# Altium footprint library MY-I.MX6-PCB_Library.PcbLib: 53 footprints (part 2 of 4)
Each footprint in its own frame and in the unit in brackets; x right, y up, seen from the top. Pads: shape width x height; smd on the part's side, far side on the other; paste and mask are expansions set on the pad; w line width, h text height; cw(c..) or ccw(c..) is an arc to the next point about the centre after c.
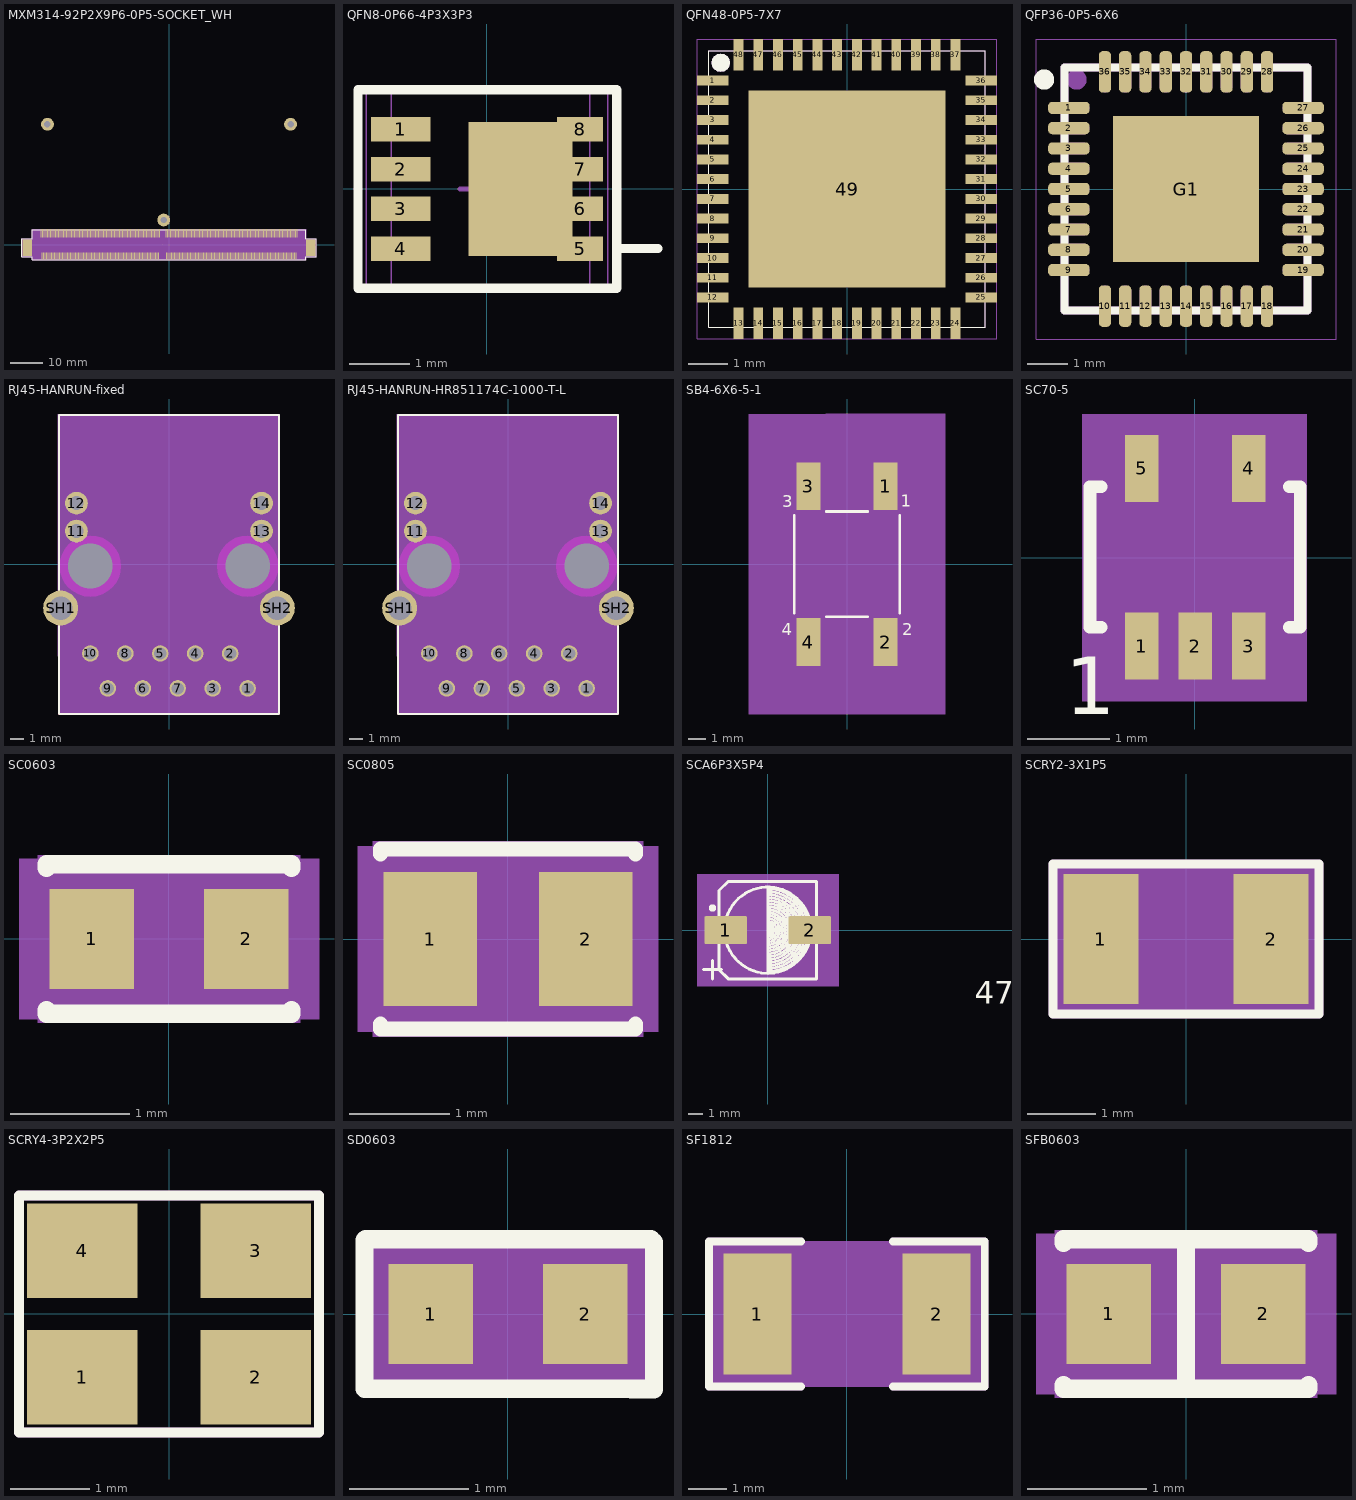
[diagram p1: the footprints below, top view; thin cyan lines are the x and y axes]

## MXM314-92P2X9P6-0P5-SOCKET_WH [mm] "MXM314-92P2X9P6-0P5-SOCKET_WH"
pads (319):
  rect 0.3x2.2 smd: P1(-39.75,-3.5) P2(-39.25,-3.5) P3(-38.75,-3.5) P4(-38.25,-3.5) P5(-37.75,-3.5) P6(-37.25,-3.5) P7(-36.75,-3.5) P8(-36.25,-3.5) P9(-35.75,-3.5) P10(-35.25,-3.5) P11(-34.75,-3.5) P12(-34.25,-3.5) P13(-33.75,-3.5) P14(-33.25,-3.5) P15(-32.75,-3.5) P16(-32.25,-3.5) P17(-31.75,-3.5) P18(-31.25,-3.5) P19(-30.75,-3.5) P20(-30.25,-3.5) P21(-29.75,-3.5) P22(-29.25,-3.5) P23(-28.75,-3.5) P24(-28.25,-3.5) P25(-27.75,-3.5) P26(-27.25,-3.5) P27(-26.75,-3.5) P28(-26.25,-3.5) P29(-25.75,-3.5) P30(-25.25,-3.5) P31(-24.75,-3.5) P32(-24.25,-3.5) P33(-23.75,-3.5) P34(-23.25,-3.5) P35(-22.75,-3.5) P36(-22.25,-3.5) P37(-21.75,-3.5) P38(-21.25,-3.5) P39(-20.75,-3.5) P40(-20.25,-3.5) P41(-19.75,-3.5) P42(-19.25,-3.5) P43(-18.75,-3.5) P44(-18.25,-3.5) P45(-17.75,-3.5) P46(-17.25,-3.5) P47(-16.75,-3.5) P48(-16.25,-3.5) P49(-15.75,-3.5) P50(-15.25,-3.5) P51(-14.75,-3.5) P52(-14.25,-3.5) P53(-13.75,-3.5) P54(-13.25,-3.5) P55(-12.75,-3.5) P56(-12.25,-3.5) P57(-11.75,-3.5) P58(-11.25,-3.5) P59(-10.75,-3.5) P60(-10.25,-3.5) P61(-9.75,-3.5) P62(-9.25,-3.5) P63(-8.75,-3.5) P64(-8.25,-3.5) P65(-7.75,-3.5) P66(-7.25,-3.5) P67(-6.75,-3.5) P68(-6.25,-3.5) P69(-5.75,-3.5) P70(-5.25,-3.5) P71(-4.75,-3.5) P72(-4.25,-3.5) P73(-3.75,-3.5) P74(-3.25,-3.5) P75(-0.75,-3.5) P76(-0.25,-3.5) P77(0.25,-3.5) P78(0.75,-3.5) P79(1.25,-3.5) P80(1.75,-3.5) P81(2.25,-3.5) P82(2.75,-3.5) P83(3.25,-3.5) P84(3.75,-3.5) P85(4.25,-3.5) P86(4.75,-3.5) P87(5.25,-3.5) P88(5.75,-3.5) P89(6.25,-3.5) P90(6.75,-3.5) P91(7.25,-3.5) P92(7.75,-3.5) P93(8.25,-3.5) P94(8.75,-3.5) P95(9.25,-3.5) P96(9.75,-3.5) P97(10.25,-3.5) P98(10.75,-3.5) P99(11.25,-3.5) P100(11.75,-3.5) P101(12.25,-3.5) P102(12.75,-3.5) P103(13.25,-3.5) P104(13.75,-3.5) P105(14.25,-3.5) P106(14.75,-3.5) P107(15.25,-3.5) P108(15.75,-3.5) P109(16.25,-3.5) P110(16.75,-3.5) P111(17.25,-3.5) P112(17.75,-3.5) P113(18.25,-3.5) P114(18.75,-3.5) P115(19.25,-3.5) P116(19.75,-3.5) P117(20.25,-3.5) P118(20.75,-3.5) P119(21.25,-3.5) P120(21.75,-3.5) P121(22.25,-3.5) P122(22.75,-3.5) P123(23.25,-3.5) P124(23.75,-3.5) P125(24.25,-3.5) P126(24.75,-3.5) P127(25.25,-3.5) P128(25.75,-3.5) P129(26.25,-3.5) P130(26.75,-3.5) P131(27.25,-3.5) P132(27.75,-3.5) P133(28.25,-3.5) P134(28.75,-3.5) P135(29.25,-3.5) P136(29.75,-3.5) P137(30.25,-3.5) P138(30.75,-3.5) P139(31.25,-3.5) P140(31.75,-3.5) P141(32.25,-3.5) P142(32.75,-3.5) P143(33.25,-3.5) P144(33.75,-3.5) P145(34.25,-3.5) P146(34.75,-3.5) P147(35.25,-3.5) P148(35.75,-3.5) P149(36.25,-3.5) P150(36.75,-3.5) P151(37.25,-3.5) P152(37.75,-3.5) P153(38.25,-3.5) P154(38.75,-3.5) P155(39.25,-3.5) P156(39.75,-3.5)
  rect 0.3x2.7 smd: S1(-40,3.65) S2(-39.5,3.65) S3(-39,3.65) S4(-38.5,3.65) S5(-38,3.65) S6(-37.5,3.65) S7(-37,3.65) S8(-36.5,3.65) S9(-36,3.65) S10(-35.5,3.65) S11(-35,3.65) S12(-34.5,3.65) S13(-34,3.65) S14(-33.5,3.65) S15(-33,3.65) S16(-32.5,3.65) S17(-32,3.65) S18(-31.5,3.65) S19(-31,3.65) S20(-30.5,3.65) S21(-30,3.65) S22(-29.5,3.65) S23(-29,3.65) S24(-28.5,3.65) S25(-28,3.65) S26(-27.5,3.65) S27(-27,3.65) S28(-26.5,3.65) S29(-26,3.65) S30(-25.5,3.65) S31(-25,3.65) S32(-24.5,3.65) S33(-24,3.65) S34(-23.5,3.65) S35(-23,3.65) S36(-22.5,3.65) S37(-22,3.65) S38(-21.5,3.65) S39(-21,3.65) S40(-20.5,3.65) S41(-20,3.65) S42(-19.5,3.65) S43(-19,3.65) S44(-18.5,3.65) S45(-18,3.65) S46(-17.5,3.65) S47(-17,3.65) S48(-16.5,3.65) S49(-16,3.65) S50(-15.5,3.65) S51(-15,3.65) S52(-14.5,3.65) S53(-14,3.65) S54(-13.5,3.65) S55(-13,3.65) S56(-12.5,3.65) S57(-12,3.65) S58(-11.5,3.65) S59(-11,3.65) S60(-10.5,3.65) S61(-10,3.65) S62(-9.5,3.65) S63(-9,3.65) S64(-8.5,3.65) S65(-8,3.65) S66(-7.5,3.65) S67(-7,3.65) S68(-6.5,3.65) S69(-6,3.65) S70(-5.5,3.65) S71(-5,3.65) S72(-4.5,3.65) S73(-4,3.65) S74(-3.5,3.65) S75(-3,3.65) S76(-1,3.65) S77(-0.5,3.65) S78(0,3.65) S79(0.5,3.65) S80(1,3.65) S81(1.5,3.65) S82(2,3.65) S83(2.5,3.65) S84(3,3.65) S85(3.5,3.65) S86(4,3.65) S87(4.5,3.65) S88(5,3.65) S89(5.5,3.65) S90(6,3.65) S91(6.5,3.65) S92(7,3.65) S93(7.5,3.65) S94(8,3.65) S95(8.5,3.65) S96(9,3.65) S97(9.5,3.65) S98(10,3.65) S99(10.5,3.65) S100(11,3.65) S101(11.5,3.65) S102(12,3.65) S103(12.5,3.65) S104(13,3.65) S105(13.5,3.65) S106(14,3.65) S107(14.5,3.65) S108(15,3.65) S109(15.5,3.65) S110(16,3.65) S111(16.5,3.65) S112(17,3.65) S113(17.5,3.65) S114(18,3.65) S115(18.5,3.65) S116(19,3.65) S117(19.5,3.65) S118(20,3.65) S119(20.5,3.65) S120(21,3.65) S121(21.5,3.65) S122(22,3.65) S123(22.5,3.65) S124(23,3.65) S125(23.5,3.65) S126(24,3.65) S127(24.5,3.65) S128(25,3.65) S129(25.5,3.65) S130(26,3.65) S131(26.5,3.65) S132(27,3.65) S133(27.5,3.65) S134(28,3.65) S135(28.5,3.65) S136(29,3.65) S137(29.5,3.65) S138(30,3.65) S139(30.5,3.65) S140(31,3.65) S141(31.5,3.65) S142(32,3.65) S143(32.5,3.65) S144(33,3.65) S145(33.5,3.65) S146(34,3.65) S147(34.5,3.65) S148(35,3.65) S149(35.5,3.65) S150(36,3.65) S151(36.5,3.65) S152(37,3.65) S153(37.5,3.65) S154(38,3.65) S155(38.5,3.65) S156(39,3.65) S157(39.5,3.65) S158(40,3.65)
  rect 3x5.15 smd: ""(-44.31,-0.98) ""(44.31,-0.98)
  round 4 hole 2: ""(-38,37.653) ""(-1.662,7.724) ""(38,37.653)
Top Layer:
  lines w0.025: -2,-0.05 -2,0.05
Top Overlay:
  lines w0.15: -42.8,4.6 -42.8,4.7 ; -42.8,4.7 42.8,4.7 42.8,1.8 46,1.8 46,-3.7 42.8,-3.7 42.8,-4.7 -42.7,-4.7 -42.7,-3.8 -46,-3.8 -46,1.8 -42.8,1.8 -42.8,4.7
  text ".Designator" at -3.01,-6.855 h0.7
Top 3D Body:
  region: 42.9,4.5 42.9,4.8 -42.9,4.8 -42.9,1.9 -46,1.9 -46.1,1.9 -46.1,-3.9 -46,-3.9 -42.8,-3.9 -42.8,-4.8 42.9,-4.8 42.9,-3.8 46.1,-3.8 46.1,1.9 42.9,1.9 42.9,4.3
Top Component Center:
  lines w0.076: -2.55,0 -1.45,0 ; -2,-0.5 -2,0.5
Mechanical 16:
  text "P4" at -39.266,-3.5 h0.64
  text "P5" at -38.766,-3.5 h0.64
  text "P128" at 23.718,-3.5 h0.64
  text "P121" at 20.218,-3.5 h0.64
  text "P122" at 20.718,-3.5 h0.64
  text "P124" at 21.718,-3.5 h0.64
  text "P127" at 23.218,-3.5 h0.64
  text "P125" at 22.218,-3.5 h0.64
  text "P132" at 25.718,-3.5 h0.64
  text "P135" at 27.218,-3.5 h0.64
  text "P136" at 27.718,-3.5 h0.64
  text "P139" at 29.218,-3.5 h0.64
  text "P133" at 26.218,-3.5 h0.64
  text "P138" at 28.718,-3.5 h0.64
  text "P130" at 24.718,-3.5 h0.64
  text "P72" at -5.774,-3.5 h0.64
  text "P105" at 12.218,-3.5 h0.64
  text "S113" at 14.198,3.65 h0.64
  text "S103" at 9.198,3.65 h0.64
  text "P107" at 13.218,-3.5 h0.64
  text "P69" at -7.274,-3.5 h0.64
  text "P73" at -5.274,-3.5 h0.64
  text "S74" at -6.294,3.65 h0.64
  text "S98" at 7.206,3.65 h0.64
  text "S58" at -14.294,3.65 h0.64
  text "S51" at -17.794,3.65 h0.64
  text "S59" at -13.794,3.65 h0.64
  text "S67" at -9.794,3.65 h0.64
  text "S57" at -14.794,3.65 h0.64
  text "S106" at 10.698,3.65 h0.64
  text "S107" at 11.198,3.65 h0.64
  text "P147" at 33.218,-3.5 h0.64
  text "S158" at 36.698,3.65 h0.64
  text "S157" at 36.198,3.65 h0.64
  text "S156" at 35.698,3.65 h0.64
  text "S155" at 35.198,3.65 h0.64
  text "S154" at 34.698,3.65 h0.64
  text "S153" at 34.198,3.65 h0.64
  text "P150" at 34.718,-3.5 h0.64
  text "P149" at 34.218,-3.5 h0.64
  text "P82" at 1.226,-3.5 h0.64
  text "P80" at 0.226,-3.5 h0.64
  text "S64" at -11.294,3.65 h0.64
  text "S61" at -12.794,3.65 h0.64
  text "S95" at 5.706,3.65 h0.64
  text "S126" at 20.698,3.65 h0.64
  text "P144" at 31.718,-3.5 h0.64
  text "P88" at 4.226,-3.5 h0.64
  text "S87" at 1.706,3.65 h0.64
  text "S55" at -15.794,3.65 h0.64
  text "S101" at 8.198,3.65 h0.64
  text "P38" at -22.774,-3.5 h0.64
  text "S132" at 23.698,3.65 h0.64
  text "P81" at 0.726,-3.5 h0.64
  text "P145" at 32.218,-3.5 h0.64
  text "P74" at -4.774,-3.5 h0.64
  text "S123" at 19.198,3.65 h0.64
  text "S75" at -5.794,3.65 h0.64
  text "S70" at -8.294,3.65 h0.64
  text "P87" at 3.726,-3.5 h0.64
  text "P78" at -0.774,-3.5 h0.64
  text "S124" at 19.698,3.65 h0.64
  text "P83" at 1.726,-3.5 h0.64
  text "S63" at -11.794,3.65 h0.64
  text "S53" at -16.794,3.65 h0.64
  text "S99" at 7.706,3.65 h0.64
  text "S72" at -7.294,3.65 h0.64
  text "S68" at -9.294,3.65 h0.64
  text "S60" at -13.294,3.65 h0.64
  text "S54" at -16.294,3.65 h0.64
  text "P85" at 2.726,-3.5 h0.64
  text "P76" at -1.774,-3.5 h0.64
  text "P86" at 3.226,-3.5 h0.64
  text "P91" at 5.726,-3.5 h0.64
  text "S96" at 6.206,3.65 h0.64
  text "S8" at -38.786,3.65 h0.64
  text "S90" at 3.206,3.65 h0.64
  text "S128" at 21.698,3.65 h0.64
  text "S102" at 8.698,3.65 h0.64
  text "S62" at -12.294,3.65 h0.64
  text "S50" at -18.294,3.65 h0.64
  text "S97" at 6.706,3.65 h0.64
  text "S104" at 9.698,3.65 h0.64
  text "S94" at 5.206,3.65 h0.64
  text "S88" at 2.206,3.65 h0.64
  text "P79" at -0.274,-3.5 h0.64
  text "S49" at -18.794,3.65 h0.64
  text "S119" at 17.198,3.65 h0.64
  text "P92" at 6.226,-3.5 h0.64
  text "S108" at 11.698,3.65 h0.64
  text "P89" at 4.726,-3.5 h0.64
  text "S92" at 4.206,3.65 h0.64
  text "S131" at 23.198,3.65 h0.64
  text "S130" at 22.698,3.65 h0.64
  text "S93" at 4.706,3.65 h0.64
  text "S129" at 22.198,3.65 h0.64
  text "P146" at 32.718,-3.5 h0.64
  text "P77" at -1.274,-3.5 h0.64
  text "S73" at -6.794,3.65 h0.64
  text "S100" at 7.698,3.65 h0.64
  text "S66" at -10.294,3.65 h0.64
  text "S32" at -27.294,3.65 h0.64
  text "S69" at -8.794,3.65 h0.64
  text "S71" at -7.794,3.65 h0.64
  text "P90" at 5.226,-3.5 h0.64
  text "P143" at 31.218,-3.5 h0.64
  text "S105" at 10.198,3.65 h0.64
  text "S125" at 20.198,3.65 h0.64
  text "S56" at -15.294,3.65 h0.64
  text "S89" at 2.706,3.65 h0.64
  text "S109" at 12.198,3.65 h0.64
  text "P70" at -6.774,-3.5 h0.64
  text "S86" at 1.206,3.65 h0.64
  text "S65" at -10.794,3.65 h0.64
  text "P84" at 2.226,-3.5 h0.64
  text "S52" at -17.294,3.65 h0.64
  text "P104" at 11.718,-3.5 h0.64
  text "P63" at -10.274,-3.5 h0.64
  text "S17" at -34.794,3.65 h0.64
  text "P6" at -38.266,-3.5 h0.64
  text "P10" at -36.774,-3.5 h0.64
  text "P71" at -6.274,-3.5 h0.64
  text "P62" at -10.774,-3.5 h0.64
  text "S29" at -28.794,3.65 h0.64
  text "P65" at -9.274,-3.5 h0.64
  text "P61" at -11.274,-3.5 h0.64
  text "S91" at 3.706,3.65 h0.64
  text "P148" at 33.718,-3.5 h0.64
  text "P64" at -9.774,-3.5 h0.64
  text "S30" at -28.294,3.65 h0.64
  text "P8" at -37.266,-3.5 h0.64
  text "S77" at -3.294,3.65 h0.64
  text "S78" at -2.794,3.65 h0.64
  text "P66" at -8.774,-3.5 h0.64
  text "P67" at -8.274,-3.5 h0.64
  text "S26" at -30.294,3.65 h0.64
  text "P12" at -35.774,-3.5 h0.64
  text "S152" at 33.698,3.65 h0.64
  text "S149" at 32.198,3.65 h0.64
  text "S151" at 33.198,3.65 h0.64
  text "S150" at 32.698,3.65 h0.64
  text "P60" at -11.774,-3.5 h0.64
  text "P9" at -36.766,-3.5 h0.64
  text "S18" at -34.294,3.65 h0.64
  text "P11" at -36.274,-3.5 h0.64
  text "S27" at -29.794,3.65 h0.64
  text "P7" at -37.766,-3.5 h0.64
  text "P25" at -29.274,-3.5 h0.64
  text "P24" at -29.774,-3.5 h0.64
  text "S46" at -20.294,3.65 h0.64
  text "S47" at -19.794,3.65 h0.64
  text "S14" at -36.294,3.65 h0.64
  text "P35" at -24.274,-3.5 h0.64
  text "S10" at -38.294,3.65 h0.64
  text "S24" at -31.294,3.65 h0.64
  text "P49" at -17.274,-3.5 h0.64
  text "P28" at -27.774,-3.5 h0.64
  text "S112" at 13.698,3.65 h0.64
  text "P27" at -28.274,-3.5 h0.64
  text "S85" at 0.706,3.65 h0.64
  text "P19" at -32.274,-3.5 h0.64
  text "P18" at -32.774,-3.5 h0.64
  text "S144" at 29.698,3.65 h0.64
  text "P16" at -33.774,-3.5 h0.64
  text "P106" at 12.718,-3.5 h0.64
  text "P15" at -34.274,-3.5 h0.64
  text "P103" at 11.218,-3.5 h0.64
  text "P22" at -30.774,-3.5 h0.64
  text "P21" at -31.274,-3.5 h0.64
  text "S140" at 27.698,3.65 h0.64
  text "P43" at -20.274,-3.5 h0.64
  text "S110" at 12.698,3.65 h0.64
  text "S138" at 26.698,3.65 h0.64
  text "S37" at -24.794,3.65 h0.64
  text "S122" at 18.698,3.65 h0.64
  text "S6" at -39.786,3.65 h0.64
  text "S41" at -22.794,3.65 h0.64
  text "S23" at -31.794,3.65 h0.64
  text "S135" at 25.198,3.65 h0.64
  text "S7" at -39.286,3.65 h0.64
  text "S44" at -21.294,3.65 h0.64
  text "S84" at 0.206,3.65 h0.64
  text "S34" at -26.294,3.65 h0.64
  text "S141" at 28.198,3.65 h0.64
  text "P46" at -18.774,-3.5 h0.64
  text "P113" at 16.218,-3.5 h0.64
  text "S121" at 18.198,3.65 h0.64
  text "P54" at -14.774,-3.5 h0.64
  text "P58" at -12.774,-3.5 h0.64
  text "S21" at -32.794,3.65 h0.64
  text "P110" at 14.718,-3.5 h0.64
  text "P37" at -23.274,-3.5 h0.64
  text "S20" at -33.294,3.65 h0.64
  text "S82" at -0.794,3.65 h0.64
  text "P100" at 9.718,-3.5 h0.64
  text "P47" at -18.274,-3.5 h0.64
  text "P32" at -25.774,-3.5 h0.64
  text "P141" at 30.218,-3.5 h0.64
  text "P115" at 17.218,-3.5 h0.64
  text "S80" at -1.794,3.65 h0.64
  text "S120" at 17.698,3.65 h0.64
  text "S111" at 13.198,3.65 h0.64
  text "S147" at 31.198,3.65 h0.64
  text "S134" at 24.698,3.65 h0.64
  text "S117" at 16.198,3.65 h0.64
  text "P101" at 10.218,-3.5 h0.64
  text "P39" at -22.274,-3.5 h0.64
  text "P97" at 8.726,-3.5 h0.64
  text "P41" at -21.274,-3.5 h0.64
  text "P45" at -19.274,-3.5 h0.64
  text "S9" at -38.286,3.65 h0.64
  text "S40" at -23.294,3.65 h0.64
  text "P94" at 7.226,-3.5 h0.64
  text "P53" at -15.274,-3.5 h0.64
  text "S137" at 26.198,3.65 h0.64
  text "S11" at -37.794,3.65 h0.64
  text "S35" at -25.794,3.65 h0.64
  text "P34" at -24.774,-3.5 h0.64
  text "P112" at 15.718,-3.5 h0.64
  text "P119" at 19.218,-3.5 h0.64
  text "P50" at -16.774,-3.5 h0.64
  text "P33" at -25.274,-3.5 h0.64
  text "S146" at 30.698,3.65 h0.64
  text "P42" at -20.774,-3.5 h0.64
  text "S4" at -40.786,3.65 h0.64
  text "S38" at -24.294,3.65 h0.64
  text "S118" at 16.698,3.65 h0.64
  text "S83" at -0.294,3.65 h0.64
  text "P95" at 7.726,-3.5 h0.64
  text "S143" at 29.198,3.65 h0.64
  text "S116" at 15.698,3.65 h0.64
  text "P55" at -14.274,-3.5 h0.64
  text "S114" at 14.698,3.65 h0.64
  text "S12" at -37.294,3.65 h0.64
  text "P116" at 17.718,-3.5 h0.64
  text "S43" at -21.794,3.65 h0.64
  text "P40" at -21.774,-3.5 h0.64
  text "P56" at -13.774,-3.5 h0.64
  text "S13" at -36.794,3.65 h0.64
  text "P31" at -26.274,-3.5 h0.64
  text "P142" at 30.718,-3.5 h0.64
  text "P109" at 14.218,-3.5 h0.64
  text "S81" at -1.294,3.65 h0.64
  text "S3" at -41.286,3.65 h0.64
  text "P118" at 18.718,-3.5 h0.64
  text "P30" at -26.774,-3.5 h0.64
  text "P98" at 9.226,-3.5 h0.64
  text "P51" at -16.274,-3.5 h0.64
  text "P52" at -15.774,-3.5 h0.64
  text "P48" at -17.774,-3.5 h0.64
  text "S5" at -40.286,3.65 h0.64
  text "P44" at -19.774,-3.5 h0.64
  text "P36" at -23.774,-3.5 h0.64
  text "P57" at -13.274,-3.5 h0.64
  text "P102" at 10.718,-3.5 h0.64
  text "P111" at 15.218,-3.5 h0.64
  text "P129" at 24.218,-3.5 h0.64
  text "P75" at -2.274,-3.5 h0.64
  text "P1" at -40.766,-3.5 h0.64
  text "P2" at -40.266,-3.5 h0.64
  text "P14" at -34.774,-3.5 h0.64
  text "P17" at -33.274,-3.5 h0.64
  text "P20" at -31.774,-3.5 h0.64
  text "P23" at -30.274,-3.5 h0.64
  text "P26" at -28.774,-3.5 h0.64
  text "P29" at -27.274,-3.5 h0.64
  text "P93" at 6.726,-3.5 h0.64
  text "P96" at 8.226,-3.5 h0.64
  text "P99" at 9.726,-3.5 h0.64
  text "P108" at 13.718,-3.5 h0.64
  text "P114" at 16.718,-3.5 h0.64
  text "P117" at 18.218,-3.5 h0.64
  text "P120" at 19.718,-3.5 h0.64
  text "P126" at 22.718,-3.5 h0.64
  text "P123" at 21.218,-3.5 h0.64
  text "P131" at 25.218,-3.5 h0.64
  text "P134" at 26.718,-3.5 h0.64
  text "P137" at 28.218,-3.5 h0.64
  text "P140" at 29.718,-3.5 h0.64
  text "P3" at -39.766,-3.5 h0.64
  text "S2" at -41.786,3.65 h0.64
  text "S16" at -35.294,3.65 h0.64
  text "P13" at -35.274,-3.5 h0.64
  text "S19" at -33.794,3.65 h0.64
  text "S22" at -32.294,3.65 h0.64
  text "S28" at -29.294,3.65 h0.64
  text "S31" at -27.794,3.65 h0.64
  text "S33" at -26.794,3.65 h0.64
  text "S25" at -30.794,3.65 h0.64
  text "S36" at -25.294,3.65 h0.64
  text "S39" at -23.794,3.65 h0.64
  text "S42" at -22.294,3.65 h0.64
  text "S45" at -20.794,3.65 h0.64
  text "S48" at -19.294,3.65 h0.64
  text "S76" at -3.794,3.65 h0.64
  text "S79" at -2.294,3.65 h0.64
  text "S115" at 15.198,3.65 h0.64
  text "S133" at 24.198,3.65 h0.64
  text "S136" at 25.698,3.65 h0.64
  text "S139" at 27.198,3.65 h0.64
  text "S142" at 28.698,3.65 h0.64
  text "S145" at 30.198,3.65 h0.64
  text "S148" at 31.698,3.65 h0.64
  text "S1" at -42.286,3.65 h0.64
  text "S15" at -35.794,3.65 h0.64
  text "S127" at 21.198,3.65 h0.64
  text "P68" at -7.774,-3.5 h0.64
  text "P59" at -12.274,-3.5 h0.64
  text "P156" at 37.718,-3.5 h0.64
  text "P155" at 37.218,-3.5 h0.64
  text "P154" at 36.718,-3.5 h0.64
  text "P153" at 36.218,-3.5 h0.64
  text "P152" at 35.718,-3.5 h0.64
  text "P151" at 35.218,-3.5 h0.64
Top Assembly:
  lines w0.025: -46,-3.8 -42.7,-3.8 -42.7,-4.7 42.8,-4.7 42.8,-3.7 46,-3.7 46,1.8 42.8,1.8 42.8,4.7 -42.8,4.7 -42.8,1.8 -46,1.8 -46,-3.8
  text "MXM314" at -2.762,-0.212 h0.64
Mechanical 20:
  dashed: 42.9,3.5 42.9,4.8 -42.9,4.8 -42.9,1.9 -46.1,1.9 -46.1,1.1 -46.1,-3.9 -42.8,-3.9 -42.8,-4.8 42.9,-4.8 42.9,-3.8 46.1,-3.8 46.1,1.9 42.9,1.9 42.9,3.3
3D body: height 3.81, standoff 0, extent -46.1,-4.8 46.1,4.8

## QFN8-0P66-4P3X3P3 [mil] "QFN8-0P66-4P3X3P3"
pads (9):
  rect 39x16 smd: 1(-56.5,39) 2(-56.5,13) 3(-56.5,-13) 4(-56.5,-39)
  rect 30x16 smd: 5(61,-39) 6(61,-13) 7(61,13) 8(61,39)
  rect 68x88 smd: ""(22,0)
Top Overlay:
  lines w6: 87,-39 112,-39 ; -84.43,-65.01 -84.43,65.01 84.99,65.01 84.99,-65.01 -84.43,-65.01
  text ".Designator" at 112.7,22.15 h27.56
Top Courtyard:
  lines w1: -79,-65 -79,65 79,65 79,-65 -79,-65
Top 3D Body:
  lines w1: -79,-65 -79,65 79,65 79,-65 -79,-65
Top Component Center:
  lines w3: -17.75,0 22.25,0 ; 2.25,-20 2.25,20
Mechanical 16:
  text "4" at -66.5,-39 h25
  text "3" at -66.5,-13 h25
  text "2" at -66.5,13 h25
  text "1" at -66.5,39 h25
  text "8" at 51,39 h25
  text "7" at 51,13 h25
  text "6" at 51,-13 h25
  text "5" at 51,-39 h25
Top Assembly:
  lines w1: -62.75,-65 67.25,-65 67.25,65 -62.75,65 -62.75,-65
  text "Si7129DN-T1-GE3" at -147.75,-8.33 h25

## QFN48-0P5-7X7 [mm] "QFN48-0P5-7X7"
pads (49):
  rect 0.8x0.25 smd: 1(-3.4,2.75) 2(-3.4,2.25) 3(-3.4,1.75) 4(-3.4,1.25) 5(-3.4,0.75) 6(-3.4,0.25) 7(-3.4,-0.25) 8(-3.4,-0.75) 9(-3.4,-1.25) 10(-3.4,-1.75) 11(-3.4,-2.25) 12(-3.4,-2.75) 25(3.4,-2.75) 26(3.4,-2.25) 27(3.4,-1.75) 28(3.4,-1.25) 29(3.4,-0.75) 30(3.4,-0.25) 31(3.4,0.25) 32(3.4,0.75) 33(3.4,1.25) 34(3.4,1.75) 35(3.4,2.25) 36(3.4,2.75)
  rect 0.25x0.8 smd: 13(-2.75,-3.4) 14(-2.25,-3.4) 15(-1.75,-3.4) 16(-1.25,-3.4) 17(-0.75,-3.4) 18(-0.25,-3.4) 19(0.25,-3.4) 20(0.75,-3.4) 21(1.25,-3.4) 22(1.75,-3.4) 23(2.25,-3.4) 24(2.75,-3.4) 37(2.75,3.4) 38(2.25,3.4) 39(1.75,3.4) 40(1.25,3.4) 41(0.75,3.4) 42(0.25,3.4) 43(-0.25,3.4) 44(-0.75,3.4) 45(-1.25,3.4) 46(-1.75,3.4) 47(-2.25,3.4) 48(-2.75,3.4)
  rect 5x5 smd: 49(0,0)
Top Overlay:
  dashed: -2.972,3.2 -2.989,3.287 -3.039,3.361 -3.113,3.411 -3.2,3.428 -3.287,3.411 -3.312,3.394 -3.361,3.361 -3.411,3.287 -3.428,3.2 -3.411,3.113 -3.361,3.039 -3.312,3.006 -3.287,2.989 -3.2,2.972 -3.113,2.989 -3.039,3.039 -2.989,3.113
  lines w0.025: -3.5,-3.5 3.5,-3.5 3.5,3.5 -3.5,3.5 -3.5,-3.5
  text ".Designator" at -6.619,2.246 h0.7
Top Paste:
  dashed: -1.24,1.25 -1.24,2.16 -2.15,2.16 -2.15,1.25
  dashed: -1.24,0.1 -1.24,1.01 -2.15,1.01 -2.15,0.1
  dashed: -1.24,-1.03 -1.24,-0.12 -2.15,-0.12 -2.15,-1.03
  dashed: -1.24,-2.18 -1.24,-1.27 -2.15,-1.27 -2.15,-2.18
  dashed: -0.11,-2.18 -0.11,-1.27 -1.02,-1.27 -1.02,-2.18
  dashed: -0.11,-1.03 -0.11,-0.12 -1.02,-0.12 -1.02,-1.03
  dashed: -0.11,0.1 -0.11,1.01 -1.02,1.01 -1.02,0.1
  dashed: -0.11,1.25 -0.11,2.16 -1.02,2.16 -1.02,1.25
  dashed: 2.151,-2.182 2.151,-1.271 1.241,-1.271 1.241,-2.182
  dashed: 1.02,-2.181 1.02,-1.271 0.111,-1.271 0.111,-2.181
  dashed: 2.151,-1.031 2.151,-0.121 1.241,-0.121 1.241,-1.031
  dashed: 1.02,-1.031 1.02,-0.121 0.111,-0.121 0.111,-1.031
  dashed: 2.151,1.248 2.151,2.158 1.241,2.158 1.241,1.248
  dashed: 2.151,0.099 2.151,1.008 1.241,1.008 1.241,0.099
  dashed: 1.02,0.099 1.02,1.009 0.111,1.009 0.111,0.099
  dashed: 1.02,1.249 1.02,2.159 0.111,2.159 0.111,1.249
Top Solder:
  dashed: -1.23,-1.04 -1.23,-0.11 -2.16,-0.11 -2.16,-1.04
  dashed: -1.23,-2.19 -1.23,-1.26 -2.16,-1.26 -2.16,-2.19
  dashed: -1.23,0.09 -1.23,1.02 -2.16,1.02 -2.16,0.09
  dashed: -1.23,1.24 -1.23,2.17 -2.16,2.17 -2.16,1.24
  dashed: -0.1,-2.19 -0.1,-1.26 -1.03,-1.26 -1.03,-2.19
  dashed: -0.1,-1.04 -0.1,-0.11 -1.03,-0.11 -1.03,-1.04
  dashed: -0.1,1.24 -0.1,2.17 -1.03,2.17 -1.03,1.24
  dashed: -0.1,0.09 -0.1,1.02 -1.03,1.02 -1.03,0.09
  dashed: 1.03,-2.19 1.03,-1.26 0.1,-1.26 0.1,-2.19
  dashed: 1.03,-1.04 1.03,-0.11 0.1,-0.11 0.1,-1.04
  dashed: 1.03,1.24 1.03,2.17 0.1,2.17 0.1,1.24
  dashed: 1.03,0.09 1.03,1.02 0.1,1.02 0.1,0.09
  dashed: 2.16,-2.19 2.16,-1.26 1.23,-1.26 1.23,-2.19
  dashed: 2.16,-1.04 2.16,-0.11 1.23,-0.11 1.23,-1.04
  dashed: 2.16,1.24 2.16,2.17 1.23,2.17 1.23,1.24
  dashed: 2.16,0.09 2.16,1.02 1.23,1.02 1.23,0.09
Top 3D Body:
  lines w0.025: -3.802,-3.802 3.802,-3.802 3.802,3.802 -3.802,3.802 -3.802,-3.802
Mechanical 16:
  text "13" at -3.157,-3.4 h0.51
  text "47" at -2.656,3.4 h0.51
  text "48" at -3.157,3.4 h0.51
  text "46" at -2.157,3.4 h0.51
  text "45" at -1.656,3.4 h0.51
  text "39" at 1.344,3.4 h0.51
  text "23" at 1.843,-3.4 h0.51
  text "18" at -0.656,-3.4 h0.51
  text "26" at 2.994,-2.25 h0.51
  text "30" at 2.994,-0.25 h0.51
  text "14" at -2.656,-3.4 h0.51
  text "7" at -3.603,-0.25 h0.51
  text "10" at -3.806,-1.75 h0.51
  text "1" at -3.603,2.75 h0.51
  text "12" at -3.806,-2.75 h0.51
  text "4" at -3.603,1.25 h0.51
  text "9" at -3.603,-1.25 h0.51
  text "44" at -1.157,3.4 h0.51
  text "5" at -3.603,0.75 h0.51
  text "6" at -3.603,0.25 h0.51
  text "8" at -3.603,-0.75 h0.51
  text "17" at -1.157,-3.4 h0.51
  text "2" at -3.603,2.25 h0.51
  text "43" at -0.656,3.4 h0.51
  text "3" at -3.603,1.75 h0.51
  text "34" at 2.994,1.75 h0.51
  text "40" at 0.843,3.4 h0.51
  text "16" at -1.656,-3.4 h0.51
  text "11" at -3.806,-2.25 h0.51
  text "15" at -2.157,-3.4 h0.51
  text "20" at 0.344,-3.4 h0.51
  text "36" at 2.994,2.75 h0.51
  text "19" at -0.156,-3.4 h0.51
  text "21" at 0.843,-3.4 h0.51
  text "31" at 2.994,0.25 h0.51
  text "41" at 0.344,3.4 h0.51
  text "27" at 2.994,-1.75 h0.51
  text "25" at 2.994,-2.75 h0.51
  text "38" at 1.843,3.4 h0.51
  text "24" at 2.344,-3.4 h0.51
  text "28" at 2.994,-1.25 h0.51
  text "42" at -0.156,3.4 h0.51
  text "22" at 1.344,-3.4 h0.51
  text "32" at 2.994,0.75 h0.51
  text "37" at 2.344,3.4 h0.51
  text "35" at 2.994,2.25 h0.51
  text "33" at 2.994,1.25 h0.51
  text "29" at 2.994,-0.75 h0.51
  text "49" at -0.813,0 h0.51
  text "49" at -0.953,0 h0.51
  text "49" at 1.308,-0.001 h0.51
  text "49" at 0.178,-0.001 h0.51
Top Assembly:
  dashed: -2.972,3.2 -2.989,3.287 -3.039,3.361 -3.113,3.411 -3.2,3.428 -3.287,3.411 -3.312,3.394 -3.361,3.361 -3.411,3.287 -3.428,3.2 -3.411,3.113 -3.361,3.039 -3.312,3.006 -3.287,2.989 -3.2,2.972 -3.113,2.989 -3.039,3.039 -2.989,3.113
  lines w0.025: -3.5,-3.5 3.5,-3.5 3.5,3.5 -3.5,3.5 -3.5,-3.5

## QFP36-0P5-6X6 [mm] "QFP36-0P5-6X6"
pads (37):
  rrect67% 1.024x0.3 smd: 1(-2.888,2) 2(-2.888,1.5) 3(-2.888,1) 4(-2.888,0.5) 5(-2.888,0) 6(-2.888,-0.5) 7(-2.888,-1) 8(-2.888,-1.5) 9(-2.888,-2) 19(2.888,-2) 20(2.888,-1.5) 21(2.888,-1) 22(2.888,-0.5) 23(2.888,0) 24(2.888,0.5) 25(2.888,1) 26(2.888,1.5) 27(2.888,2)
  rrect67% 0.3x1.024 smd: 10(-2,-2.888) 11(-1.5,-2.888) 12(-1,-2.888) 13(-0.5,-2.888) 14(0,-2.888) 15(0.5,-2.888) 16(1,-2.888) 17(1.5,-2.888) 18(2,-2.888) 28(2,2.888) 29(1.5,2.888) 30(1,2.888) 31(0.5,2.888) 32(0,2.888) 33(-0.5,2.888) 34(-1,2.888) 35(-1.5,2.888) 36(-2,2.888)
  rect 3.6x3.6 smd: G1(0,0)
Top Overlay:
  circle w0.25: c-3.5,2.7 r0.125
  lines w0.2: -3,-3 3,-3 3,3 -3,3 -3,-3
  text ".Designator" at -6.162,1.365 h0.7
Top Paste:
  dashed: 1.26,0.75 1.221,0.945 1.11,1.11 0.945,1.221 0.75,1.26 0.555,1.221 0.499,1.184 0.39,1.11 0.279,0.945 0.24,0.75 0.279,0.555 0.39,0.39 0.499,0.316 0.555,0.279 0.75,0.24 0.945,0.279 1.11,0.39 1.221,0.555
  dashed: -0.24,0.75 -0.279,0.945 -0.39,1.11 -0.555,1.221 -0.75,1.26 -0.945,1.221 -1.001,1.184 -1.11,1.11 -1.221,0.945 -1.26,0.75 -1.221,0.555 -1.11,0.39 -1.001,0.316 -0.945,0.279 -0.75,0.24 -0.555,0.279 -0.39,0.39 -0.279,0.555
  dashed: 1.26,-0.75 1.221,-0.555 1.11,-0.39 0.945,-0.279 0.75,-0.24 0.555,-0.279 0.499,-0.316 0.39,-0.39 0.279,-0.555 0.24,-0.75 0.279,-0.945 0.39,-1.11 0.499,-1.184 0.555,-1.221 0.75,-1.26 0.945,-1.221 1.11,-1.11 1.221,-0.945
  dashed: -0.24,-0.75 -0.279,-0.555 -0.39,-0.39 -0.555,-0.279 -0.75,-0.24 -0.945,-0.279 -1.001,-0.316 -1.11,-0.39 -1.221,-0.555 -1.26,-0.75 -1.221,-0.945 -1.11,-1.11 -1.001,-1.184 -0.945,-1.221 -0.75,-1.26 -0.555,-1.221 -0.39,-1.11 -0.279,-0.945
Top Courtyard:
  lines w0.025: -3,-3 3,-3 3,3 -3,3 -3,-3
Top 3D Body:
  lines w0.025: -3.7,-3.7 3.7,-3.7 3.7,3.7 -3.7,3.7 -3.7,-3.7
Top Component Center:
  circle w0.025: c0,0 r0.5
  lines w0.025: -1,0 1,0 ; 0,-1 0,1
Mechanical 16:
  text "35" at -1.863,2.888 h0.45
  text "34" at -1.363,2.888 h0.45
  text "32" at -0.363,2.888 h0.45
  text "4" at -3.07,0.5 h0.45
  text "25" at 2.525,1 h0.45
  text "6" at -3.07,-0.5 h0.45
  text "7" at -3.07,-1 h0.45
  text "2" at -3.07,1.5 h0.45
  text "24" at 2.525,0.5 h0.45
  text "33" at -0.863,2.888 h0.45
  text "1" at -3.07,2 h0.45
  text "3" at -3.07,1 h0.45
  text "22" at 2.525,-0.5 h0.45
  text "27" at 2.525,2 h0.45
  text "30" at 0.637,2.888 h0.45
  text "14" at -0.363,-2.888 h0.45
  text "26" at 2.525,1.5 h0.45
  text "18" at 1.637,-2.888 h0.45
  text "19" at 2.525,-2 h0.45
  text "12" at -1.363,-2.888 h0.45
  text "28" at 1.637,2.888 h0.45
  text "16" at 0.637,-2.888 h0.45
  text "17" at 1.137,-2.888 h0.45
  text "13" at -0.863,-2.888 h0.45
  text "31" at 0.137,2.888 h0.45
  text "10" at -2.363,-2.888 h0.45
  text "15" at 0.137,-2.888 h0.45
  text "5" at -3.07,0 h0.45
  text "23" at 2.525,0 h0.45
  text "36" at -2.363,2.888 h0.45
  text "29" at 1.137,2.888 h0.45
  text "G1" at -1.016,0 h0.64
  text "11" at -1.863,-2.888 h0.45
  text "9" at -3.07,-2 h0.45
  text "8" at -3.07,-1.5 h0.45
  text "20" at 2.525,-1.5 h0.45
  text "21" at 2.525,-1 h0.45
Top Assembly:
  circle w0.25: c-2.7,2.7 r0.125
  lines w0.2: -3,-3 3,-3 3,3 -3,3 -3,-3
  lines w0.3: -2.95,-2 -2.525,-2 ; -2.95,-1.5 -2.525,-1.5 ; -2.95,-1 -2.525,-1 ; -2.95,-0.5 -2.525,-0.5 ; -2.95,0 -2.525,0 ; -2.95,0.5 -2.525,0.5 ; -2.95,1 -2.525,1 ; -2.95,1.5 -2.525,1.5 ; -2.95,2 -2.525,2 ; -2,-2.95 -2,-2.525 ; -2,2.525 -2,2.95 ; -1.5,-2.95 -1.5,-2.525 ; -1.5,2.525 -1.5,2.95 ; -1,-2.95 -1,-2.525 ; -1,2.525 -1,2.95 ; -0.5,-2.95 -0.5,-2.525 ; -0.5,2.525 -0.5,2.95 ; 0,-2.95 0,-2.525 ; 0,2.525 0,2.95 ; 0.5,-2.95 0.5,-2.525 ; 0.5,2.525 0.5,2.95 ; 1,-2.95 1,-2.525 ; 1,2.525 1,2.95 ; 1.5,-2.95 1.5,-2.525 ; 1.5,2.525 1.5,2.95 ; 2,-2.95 2,-2.525 ; 2,2.525 2,2.95 ; 2.525,-2 2.95,-2 ; 2.525,-1.5 2.95,-1.5 ; 2.525,-1 2.95,-1 ; 2.525,-0.5 2.95,-0.5 ; 2.525,0 2.95,0 ; 2.525,0.5 2.95,0.5 ; 2.525,1 2.95,1 ; 2.525,1.5 2.95,1.5 ; 2.525,2 2.95,2
  text "USB2514B-AEZC" at -2.361,-0.151 h0.45
Top Component Outline:
  circle w0.025: c0,0 r0.5
  lines w0.025: -1,0 1,0 ; 0,-1 0,1

## RJ45-HANRUN-fixed [mil] "RJ45-HANRUN-HR851174C-1000-T-L"
pads (18):
  round 47.24 / inner round 60 / far side round 60 hole 35: 1(223.92,-355.9) 2(173.92,-255.9) 3(123.92,-355.9) 4(73.92,-255.9) 5(-26.08,-255.9) 6(-76.08,-355.9) 7(23.92,-355.9) 8(-126.08,-255.9) 9(-176.08,-355.9) 10(-226.08,-255.9)
  round 65 hole 40: 11(-265.84,94.1) 12(-265.84,174.02) 13(263.69,94.1) 14(263.69,174.02)
  round 100 hole 67.32: SH1(-311.12,-125.98) SH2(308.96,-125.98)
  round 118 hole 128 unplated: ""(-226.08,-5.9) ""(223.92,-5.9)
Top Overlay:
  lines w5.91: -316.04,-429.13 -316.04,426.78 313.88,426.78 313.88,-429.13 -316.04,-429.13
  text ".Designator" at 412.21,302.98 h27.56
Top Courtyard:
  dashed: 312.11,429.14 -313.88,429.14 -313.88,-429.13 312.11,-429.13
Top 3D Body:
  region: 313.88,-228.34 313.88,397.64 -312.1,397.64 -312.1,-228.34 -312.1,-263.77 313.88,-263.77
Top Component Center:
  lines w3: -21.08,114.18 18.92,114.18 ; -1.08,94.18 -1.08,134.18
Mechanical 16:
  text "9" at -140,-365 h25
  text "6" at -40,-365 h25
  text "1" at 260,-365 h25
  text "3" at 160,-365 h25
  text "7" at 60,-365 h25
  text "8" at -90,-265 h25
  text "10" at -195,-265 h25
  text "5" at 10,-265 h25
  text "2" at 210,-265 h25
  text "4" at 110,-265 h25
  text "SH2" at 338.96,-125.98 h25
  text "SH1" at -281.12,-125.98 h25
  text "13" at 323.52,82.93 h25
  text "11" at -207.67,82.93 h25
  text "12" at -207.67,162.85 h25
  text "14" at 323.52,162.85 h25
Multi-Layer keep-out:
  region: 136.5,-5.9 138.18,-22.96 143.15,-39.36 151.23,-54.47 162.11,-67.72 175.35,-78.59 190.47,-86.67 206.87,-91.64 223.92,-93.32 240.98,-91.64 257.38,-86.67 267.44,-81.29 272.49,-78.59 285.74,-67.72 296.61,-54.47 304.69,-39.36 309.66,-22.96 311.34,-5.9 309.66,11.15 304.69,27.55 296.61,42.67 285.74,55.91 272.49,66.79 267.44,69.48 257.38,74.86 240.98,79.84 223.92,81.52 206.87,79.84 190.47,74.86 175.35,66.79 162.11,55.91 151.23,42.67 143.15,27.55 138.18,11.15
  region: -313.5,-5.9 -311.82,-22.96 -306.85,-39.36 -298.77,-54.47 -287.89,-67.72 -274.65,-78.59 -259.53,-86.67 -243.13,-91.64 -226.08,-93.32 -209.02,-91.64 -192.62,-86.67 -182.56,-81.29 -177.51,-78.59 -164.26,-67.72 -153.39,-54.47 -145.31,-39.36 -140.34,-22.96 -138.66,-5.9 -140.34,11.15 -145.31,27.55 -153.39,42.67 -164.26,55.91 -177.51,66.79 -182.56,69.48 -192.62,74.86 -209.02,79.84 -226.08,81.52 -243.13,79.84 -259.53,74.86 -274.65,66.79 -287.89,55.91 -298.77,42.67 -306.85,27.55 -311.82,11.15
Top Assembly:
  lines w1: -313.88,-263.77 -316.04,-429.13 ; -316.04,-429.13 313.88,-429.13 ; -316.04,-429.13 -317.81,-263.77 -317.81,429.14 316.05,429.14 316.05,-263.77 ; -316.04,-429.13 313.88,-429.13 ; 313.88,-429.13 316.05,-263.77 ; 313.88,-429.13 316.05,-263.77
  text "HR911130C" at 88.92,105.84 h25
3D body: height 150, standoff 0, extent -312.1,-263.77 313.88,397.64

## RJ45-HANRUN-HR851174C-1000-T-L [mil] "RJ45-HANRUN-HR851174C-1000-T-L"
pads (18):
  round 47.24 / inner round 60 / far side round 60 hole 35: 1(223.92,-355.9) 2(173.92,-255.9) 3(123.92,-355.9) 4(73.92,-255.9) 5(23.92,-355.9) 6(-26.08,-255.9) 7(-76.08,-355.9) 8(-126.08,-255.9) 9(-176.08,-355.9) 10(-226.08,-255.9)
  round 65 hole 40: 11(-265.84,94.1) 12(-265.84,174.02) 13(263.69,94.1) 14(263.69,174.02)
  round 100 hole 67.32: SH1(-311.12,-125.98) SH2(308.96,-125.98)
  round 118 hole 128 unplated: ""(-226.08,-5.9) ""(223.92,-5.9)
Top Overlay:
  lines w5.91: -316.04,-429.13 -316.04,426.78 313.88,426.78 313.88,-429.13 -316.04,-429.13
  text ".Designator" at 412.21,302.98 h27.56
Top Courtyard:
  dashed: 312.11,429.14 -313.88,429.14 -313.88,-429.13 312.11,-429.13
Top 3D Body:
  region: 313.88,-228.34 313.88,397.64 -312.1,397.64 -312.1,-228.34 -312.1,-263.77 313.88,-263.77
Top Component Center:
  lines w3: -21.08,114.18 18.92,114.18 ; -1.08,94.18 -1.08,134.18
Mechanical 16:
  text "9" at -140,-365 h25
  text "7" at -40,-365 h25
  text "1" at 260,-365 h25
  text "3" at 160,-365 h25
  text "5" at 60,-365 h25
  text "8" at -90,-265 h25
  text "10" at -195,-265 h25
  text "6" at 10,-265 h25
  text "2" at 210,-265 h25
  text "4" at 110,-265 h25
  text "SH2" at 338.96,-125.98 h25
  text "SH1" at -281.12,-125.98 h25
  text "13" at 323.52,82.93 h25
  text "11" at -207.67,82.93 h25
  text "12" at -207.67,162.85 h25
  text "14" at 323.52,162.85 h25
Multi-Layer keep-out:
  region: 136.5,-5.9 138.18,-22.96 143.15,-39.36 151.23,-54.47 162.11,-67.72 175.35,-78.59 190.47,-86.67 206.87,-91.64 223.92,-93.32 240.98,-91.64 257.38,-86.67 267.44,-81.29 272.49,-78.59 285.74,-67.72 296.61,-54.47 304.69,-39.36 309.66,-22.96 311.34,-5.9 309.66,11.15 304.69,27.55 296.61,42.67 285.74,55.91 272.49,66.79 267.44,69.48 257.38,74.86 240.98,79.84 223.92,81.52 206.87,79.84 190.47,74.86 175.35,66.79 162.11,55.91 151.23,42.67 143.15,27.55 138.18,11.15
  region: -313.5,-5.9 -311.82,-22.96 -306.85,-39.36 -298.77,-54.47 -287.89,-67.72 -274.65,-78.59 -259.53,-86.67 -243.13,-91.64 -226.08,-93.32 -209.02,-91.64 -192.62,-86.67 -182.56,-81.29 -177.51,-78.59 -164.26,-67.72 -153.39,-54.47 -145.31,-39.36 -140.34,-22.96 -138.66,-5.9 -140.34,11.15 -145.31,27.55 -153.39,42.67 -164.26,55.91 -177.51,66.79 -182.56,69.48 -192.62,74.86 -209.02,79.84 -226.08,81.52 -243.13,79.84 -259.53,74.86 -274.65,66.79 -287.89,55.91 -298.77,42.67 -306.85,27.55 -311.82,11.15
Top Assembly:
  lines w1: -313.88,-263.77 -316.04,-429.13 ; -316.04,-429.13 313.88,-429.13 ; -316.04,-429.13 -317.81,-263.77 -317.81,429.14 316.05,429.14 316.05,-263.77 ; -316.04,-429.13 313.88,-429.13 ; 313.88,-429.13 316.05,-263.77 ; 313.88,-429.13 316.05,-263.77
  text "HR911130C" at 88.92,105.84 h25
3D body: height 150, standoff 0, extent -312.1,-263.77 313.88,397.64

## SB4-6X6-5-1 [mil] "SB4-6X6-5-1"
pads (4):
  rect 55x110 smd: 1(88.5,178.5) 2(88.5,-179.5) 3(-88.5,178.5) 4(-88.5,-179.5)
Top Overlay:
  lines w6: -121,-112.5 -121,111.5 ; -48,-121.5 48,-121.5 ; -48,120.5 48,120.5 ; 121,-112.5 121,111.5
  text ".Designator" at -224.88,194.2 h27.56
  text "3" at -149.02,130.5 h27.56
  text "4" at -150.02,-163.5 h27.56
  text "1" at 122.98,131.5 h27.56
  text "2" at 126.98,-163.5 h27.56
Top Courtyard:
  dashed: -116,233.5 -61,233.5 -61,118.5 61,118.5 61,234.5 116,234.5 116,-234.5 60,-234.5 60,-118.5 -61,-118.5 -61,-234.5 -116,-234.5
Top 3D Body:
  region: -116,233.5 -61,233.5 -61,118.5 61,118.5 61,234.5 116,234.5 116,-234.5 60,-234.5 60,-118.5 -61,-118.5 -61,-234.5 -116,-234.5
Top Component Center:
  lines w1: -10,-0.5 10,-0.5 ; 0,-10.5 0,9.5
Mechanical 16:
  text "1" at 80.5,178.5 h10
  text "2" at 80.5,-179.5 h10
  text "4" at -96.5,-179.5 h10
  text "3" at -96.5,178.5 h10
Top Assembly:
  lines w6: -118,-118.5 118,-118.5 118,117.5 -118,117.5 -118,-118.5
  text "SW PUSHBUTTON-SPST-2" at -200,-8.83 h25
  text "3" at -146,133.5 h25
  text "1" at 124,133.5 h25
  text "4" at -149,-160.5 h25
  text "2" at 128,-160.5 h25
Mechanical 21:
  dashed: -225.84,-344.34 -225.84,343.34 -48.84,343.34 -48.84,344.34 225.84,344.34 225.84,-344.34
3D body: height 150, standoff 0, extent -116,-234.5 116,234.5

## SC70-5 [mil] "SC70-5"
pads (5):
  rect 16x32 smd: 1(-25.3,-42.35) 2(0.3,-42.35) 3(25.9,-42.35) 4(25.9,42.65) 5(-25.3,42.65)
Top Overlay:
  lines w6: -44.7,-33.45 -50,-33.45 -50,33.75 -44.7,33.75 ; 45.3,-33.45 50.6,-33.45 50.6,33.75 45.3,33.75
  text "1" at -61.74,-74.85 h27.56
  text ".Designator" at -33.69,104.19 h27.56
Top Courtyard:
  dashed: -43.6,-58.65 43.6,-58.65 43.6,58.65 -43.6,58.65
Top 3D Body:
  region: -43.6,-58.65 -43.6,58.65 43.6,58.65 43.6,-58.65
Top Component Center:
  lines w1: -9.7,0.15 10.3,0.15 ; 0.3,-9.85 0.3,10.15
Mechanical 16:
  text "1" at -29.3,-42.35 h10
  text "2" at -3.7,-42.35 h10
  text "4" at 21.9,42.65 h10
  text "5" at -29.3,42.65 h10
  text "3" at 21.9,-42.35 h10
Top Assembly:
  lines w6: -43,-26.45 43.6,-26.45 43.6,26.75 -43,26.75 -43,-26.45
  text "1" at -33.7,-53.85 h25
  text "NLSV1T34DFT2G" at -129.7,-8.19 h25
Mechanical 22:
  dashed: -53.6,-68.65 -53.6,68.65 53.6,68.65 53.6,-68.65
3D body: height 150, standoff 0, extent -43.6,-58.65 43.6,58.65

## SC0603 [mil] "SC0603"
pads (2):
  rect 28x33 smd: 1(-25.59,0) 2(25.59,0)
Top Overlay:
  lines w6: -40.47,-23.54 -40.47,-24.72 40.47,-24.72 40.47,-23.54 ; -40.47,23.54 -40.47,24.72 40.47,24.72 40.47,23.54
  text ".Designator" at 0.43,-260.38 h27.56
Top Courtyard:
  dashed: -33.46,-17.72 33.46,-17.72 33.46,-16.54 39.61,-16.54 39.61,16.54 33.46,16.54 33.46,17.72 -33.46,17.72 -33.46,16.54 -39.61,16.54 -39.61,-16.54 -33.46,-16.54
Top 3D Body:
  region: -39.61,-16.54 -33.46,-16.54 -33.46,-17.72 33.46,-17.72 33.46,-16.54 39.61,-16.54 39.61,16.54 33.46,16.54 33.46,17.72 -33.46,17.72 -33.46,16.54 -39.61,16.54
Top Component Center:
  lines w1: -10,0 10,0 ; 0,-10 0,10
Mechanical 16:
  text "1" at -25.59,-10 h25
  text "2" at 25.59,-10 h25
Top Assembly:
  lines w6: -33.46,-17.72 33.46,-17.72 33.46,17.72 -33.46,17.72 -33.46,-17.72
  text "0.1uF 50V" at 0,-39.33 h10
Mechanical 22:
  dashed: -43.46,-26.54 -49.61,-26.54 -49.61,26.54 -43.46,26.54 -43.46,27.72 43.46,27.72 43.46,26.54 49.61,26.54 49.61,-26.54 43.46,-26.54 43.46,-27.72 -43.46,-27.72
Mechanical 23:
  text "CLASS_C" at -90.04,343.82 h31
  text "0603_CC" at -89.33,391.61 h31
3D body: height 150, standoff 0, extent -39.61,-17.72 39.61,17.72

## SC0805 [mil] "SC0805"
pads (2):
  rect 37x53 smd: 1(-30.71,0) 2(30.71,0)
Top Overlay:
  lines w6: -50.31,-33.5 -50.31,-35.55 50.31,-35.55 50.31,-33.5 ; -50.31,33.5 -50.31,35.55 50.31,35.55 50.31,33.5
  text ".Designator" at 154.68,14.3 h27.56
Top Courtyard:
  dashed: -43.31,-28.54 43.31,-28.54 43.31,-26.54 49.21,-26.54 49.21,26.54 43.31,26.54 43.31,28.54 -43.31,28.54 -43.31,26.54 -49.21,26.54 -49.21,-26.54 -43.31,-26.54
Top 3D Body:
  region: -49.21,-26.54 -43.31,-26.54 -43.31,-28.54 43.31,-28.54 43.31,-26.54 49.21,-26.54 49.21,26.54 43.31,26.54 43.31,28.54 -43.31,28.54 -43.31,26.54 -49.21,26.54
Top Component Center:
  lines w1: -10,0 10,0 ; 0,-10 0,10
Mechanical 16:
  text "1" at -26.71,0 h10
  text "2" at 34.71,0 h10
Top Assembly:
  lines w6: -43.31,-28.54 43.31,-28.54 43.31,28.54 -43.31,28.54 -43.31,-28.54
  text "10uF 16V" at 32,-3.33 h10
Mechanical 21:
  dashed: -53.31,-38.54 -53.31,-36.54 -59.21,-36.54 -59.21,36.54 -53.31,36.54 -53.31,38.54 53.31,38.54 53.31,36.54 59.21,36.54 59.21,-36.54 53.31,-36.54 53.31,-38.54
3D body: height 150, standoff 0, extent -49.21,-28.54 49.21,28.54

## SCA6P3X5P4 [mm] "SCA6P3X5P4"
pads (2):
  rrect11% 2.9x1.9 smd: 1(-2.85,0) 2(2.85,0)
Top Overlay:
  circle w0.2: c0,0 r2.925
  circle w0.25: c-3.75,1.5 r0.125
  lines w0.2: -4.367,-2.683 -3.133,-2.683 ; -3.75,-3.3 -3.75,-2.067 ; 0,-2.925 0,2.925 ; 0,-2.8 ccw(c0,0) 0,2.8 ; 0,-2.6 ccw(c0,0) 0,2.6 ; 0,-2.4 ccw(c0,0) 0,2.4 ; 0,-2.2 ccw(c0,0) 0,2.2 ; 0,-2 ccw(c0,0) 0,2 ; 0,-1.8 ccw(c0,0) 0,1.8 ; 0,-1.6 ccw(c0,0) 0,1.6 ; 0,-1.4 ccw(c0,0) 0,1.4 ; 0,-1.2 ccw(c0,0) 0,1.2 ; 0,-1 ccw(c0,0) 0,1 ; 0,-0.8 ccw(c0,0) 0,0.8 ; 0,-0.6 ccw(c0,0) 0,0.6 ; 0,-0.4 ccw(c0,0) 0,0.4 ; 0,-0.2 ccw(c0,0) 0,0.2 ; -3.3,-2.683 -2.683,-3.3 3.3,-3.3 3.3,3.3 -2.683,3.3 -3.3,2.683 -3.3,-2.683
  text ".Designator" at -2.329,4.694 h0.7
  text "47uF 16V(RVT1C470M0605)" at 14.021,-5 h1.52
Top Courtyard:
  dashed: -3.3,-3.3 -3.3,-0.55 -3.8,-0.55 -3.8,0.55 -3.3,0.55 -3.3,3.3 3.3,3.3 3.3,0.55 3.8,0.55 3.8,-0.55 3.3,-0.55 3.3,-3.3
Top 3D Body:
  region: -4.8,-3.8 4.8,-3.8 4.8,3.8 -4.8,3.8
Mechanical 16:
  text "2" at 3.032,0 h0.45
  text "1" at -2.668,0 h0.45
Top Assembly:
  circle w0.2: c0,0 r2.925
  lines w0.2: 0,-2.925 0,2.925 ; 0,-2.8 ccw(c0,0) 0,2.8 ; 0,-2.6 ccw(c0,0) 0,2.6 ; 0,-2.4 ccw(c0,0) 0,2.4 ; 0,-2.2 ccw(c0,0) 0,2.2 ; 0,-2 ccw(c0,0) 0,2 ; 0,-1.8 ccw(c0,0) 0,1.8 ; 0,-1.6 ccw(c0,0) 0,1.6 ; 0,-1.4 ccw(c0,0) 0,1.4 ; 0,-1.2 ccw(c0,0) 0,1.2 ; 0,-1 ccw(c0,0) 0,1 ; 0,-0.8 ccw(c0,0) 0,0.8 ; 0,-0.6 ccw(c0,0) 0,0.6 ; 0,-0.4 ccw(c0,0) 0,0.4 ; 0,-0.2 ccw(c0,0) 0,0.2 ; -3.3,-2.683 -2.683,-3.3 3.3,-3.3 3.3,3.3 -2.683,3.3 -3.3,2.683 -3.3,-2.683
  text "pn" at 0.363,-3.9 h0.45
  text "RichardLC" at 1.634,-3.9 h0.45
  text "47uF 16V(RVT1C470M0605)" at 4.177,-3.9 h0.45
3D body: height 3.81, standoff 0, extent -4.8,-3.8 4.8,3.8

## SCRY2-3X1P5 [mm] "SCRY2-3X1P5"
pads (2):
  rect 1.1x1.9 smd: 1(-1.25,0) 2(1.25,0)
Top Overlay:
  lines w0.127: -1.95,-1.1 1.95,-1.1 1.95,1.1 -1.95,1.1 -1.95,-1.1
  text ".Designator" at 0.457,1.558 h0.7
Top 3D Body:
  region: -1.95,-1.1 1.95,-1.1 1.95,1.1 -1.95,1.1
Mechanical 16:
  text "1" at -1.25,-0.508 h0.64
  text "2" at 1.25,-0.508 h0.64
Top Assembly:
  lines w0.127: -1.95,-1.1 1.95,-1.1 1.95,1.1 -1.95,1.1 -1.95,-1.1
  text "32.768KHZ" at 0,-1.768 h0.45
3D body: height 3.81, standoff 0, extent -1.95,-1.1 1.95,1.1

## SCRY4-3P2X2P5 [mm] "SCRY4-3P2X2P5"
pads (4):
  rect 1.4x1.2 smd: 1(-1.1,-0.8) 2(1.1,-0.8) 3(1.1,0.8) 4(-1.1,0.8)
Top Overlay:
  lines w0.127: -1.9,-1.5 -1.9,1.5 1.9,1.5 1.9,-1.5 -1.9,-1.5
  text ".Designator" at -0.532,1.845 h0.7
Top 3D Body:
  lines w0.025: -1.9,-1.5 -1.9,1.5 1.9,1.5 1.9,-1.5 -1.9,-1.5
Mechanical 16:
  text "2" at 0.592,-0.8 h0.64
  text "4" at -1.608,0.8 h0.64
  text "1" at -1.608,-0.8 h0.64
  text "3" at 0.592,0.8 h0.64
Top Assembly:
  lines w0.127: -1.9,-1.5 -1.9,1.5 1.9,1.5 1.9,-1.5 -1.9,-1.5
  text "24MHz" at -0.908,-0.133 h0.45

## SD0603 [mil] "SD0603"
pads (2):
  rect 28x33 smd: 1(-25.59,0) 2(25.59,0)
Top Overlay:
  lines w6: -40.47,-24.72 -47.36,-24.72 ; 40.47,-24.72 40.65,-24.9 48.23,-24.9 ; -47.36,-24.72 -47.43,-24.65 -47.43,24.39 -47.11,24.72 47.26,24.72 48.23,23.76 48.23,-24.9 ; -47.36,-24.72 48.05,-24.72 48.23,-24.9
Top Courtyard:
  dashed: -33.46,-17.72 33.46,-17.72 33.46,-16.54 39.61,-16.54 39.61,16.54 33.46,16.54 33.46,17.72 -33.46,17.72 -33.46,16.54 -39.61,16.54 -39.61,-16.54 -33.46,-16.54
Top 3D Body:
  region: -39.61,-16.54 -33.46,-16.54 -33.46,-17.72 33.46,-17.72 33.46,-16.54 39.61,-16.54 39.61,16.54 33.46,16.54 33.46,17.72 -33.46,17.72 -33.46,16.54 -39.61,16.54
Top Component Center:
  lines w1: -10,0 10,0 ; 0,-10 0,10
Mechanical 16:
  text "1" at -15.59,-11.09 h25
  text "2" at 36.38,-11.09 h25
Top Assembly:
  lines w6: -33.46,-17.72 33.46,-17.72 33.46,17.72 -33.46,17.72 -33.46,-17.72
  text ".Designator" at 12,-3.33 h10
  text "LED_RED" at 28,-3.33 h10
Mechanical 21:
  dashed: -43.46,-26.54 -49.61,-26.54 -49.61,26.54 -43.46,26.54 -43.46,27.72 43.46,27.72 43.46,26.54 49.61,26.54 49.61,-26.54 43.46,-26.54 43.46,-27.72 -43.46,-27.72
3D body: height 150, standoff 0, extent -39.61,-17.72 39.61,17.72

## SF1812 [mil] "SF1812"
pads (2):
  rect 70x125 smd: 1(-92.5,0) 2(92.54,0)
Top Overlay:
  lines w8: -47.5,-75 -142.5,-75 -142.5,75 -47.5,75 ; 47.5,-75 142.5,-75 142.5,75 47.5,75
  text ".Designator" at 172.78,-96.72 h27.56
Top 3D Body:
  region: -142.5,-75 -142.5,75 142.5,75 142.5,-75
Mechanical 16:
  text "2" at 108.29,0 h39.37
  text "1" at -76.75,0 h39.37
Top Assembly:
  lines w8: -47.5,-75 -142.5,-75 -142.5,75 -47.5,75 ; 47.5,-75 142.5,-75 142.5,75 47.5,75
  text "FUSE 3A" at -29.98,-8.33 h25
3D body: height 150, standoff 0, extent -142.5,-75 142.5,75

## SFB0603 [mil] "SFB0603"
pads (2):
  rect 28x33 smd: 1(-25.59,0) 2(25.59,0)
Top Overlay:
  lines w6: -40.47,-23.54 -40.47,-24.72 40.47,-24.72 40.47,-23.54 ; -40.47,23.54 -40.47,24.72 40.47,24.72 40.47,23.54 ; 0,-23.62 0,22.44
  text ".Designator" at -93.19,-11.37 h27.56
Top Courtyard:
  dashed: -33.46,-17.72 33.46,-17.72 33.46,-16.54 39.61,-16.54 39.61,16.54 33.46,16.54 33.46,17.72 -33.46,17.72 -33.46,16.54 -39.61,16.54 -39.61,-16.54 -33.46,-16.54
Top 3D Body:
  region: -39.61,-16.54 -33.46,-16.54 -33.46,-17.72 33.46,-17.72 33.46,-16.54 39.61,-16.54 39.61,16.54 33.46,16.54 33.46,17.72 -33.46,17.72 -33.46,16.54 -39.61,16.54
Top Component Center:
  lines w1: -10,0 10,0 ; 0,-10 0,10
Mechanical 16:
  text "1" at -25.59,-10 h25
  text "2" at 25.59,-10 h25
Top Assembly:
  lines w6: -33.46,-17.72 -33.46,17.72 33.46,17.72 33.46,-17.72 -33.46,-17.72
  text "120 ohm/BLM18PG121SN1D" at 0,-91.33 h10
Mechanical 21:
  dashed: -43.46,-26.54 -49.61,-26.54 -49.61,26.54 -43.46,26.54 -43.46,27.72 43.46,27.72 43.46,26.54 49.61,26.54 49.61,-26.54 43.46,-26.54 43.46,-27.72 -43.46,-27.72
3D body: height 150, standoff 0, extent -39.61,-17.72 39.61,17.72